# Altium schematic symbol library Microcontrolador.SchLib: 1 symbol
Pins are listed as number, name and electrical type; pins without a type are passive.

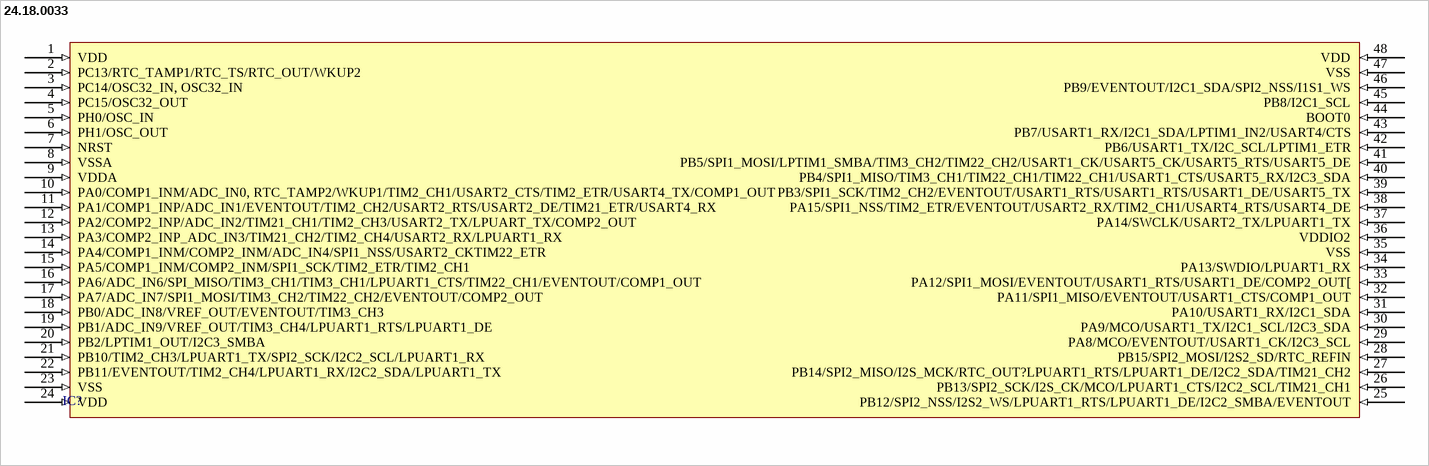
[diagram p0: symbol 24.18.0033]

## 24.18.0033
designator IC?
IC MCU 32-BIT 192KB FLASH ARM LQFP-48; Category: ARM-Microcontrollers; Price: 1=, 10=, 100= (USD); Package / Case: LQFP-48; Program Memory Type: Flash; Program Memory Size: 192 KB; Core Size: 32-bit; ComponentLink1Description: Datasheet; ComponentLink2Description: Mouser Link
footprint LQFP-48
pins: 1 VDD (in), 2 PC13/RTC_TAMP1/RTC_TS/RTC_OUT/WKUP2 (in), 3 PC14/OSC32_IN, OSC32_IN (in), 4 PC15/OSC32_OUT (in), 5 PH0/OSC_IN (in), 6 PH1/OSC_OUT (in), 7 NRST (in), 8 VSSA (in), 9 VDDA (in), 10 PA0/COMP1_INM/ADC_IN0, RTC_TAMP2/WKUP1/TIM2_CH1/USART2_CTS/TIM2_ETR/USART4_TX/COMP1_OUT (in), 11 PA1/COMP1_INP/ADC_IN1/EVENTOUT/TIM2_CH2/USART2_RTS/USART2_DE/TIM21_ETR/USART4_RX (in), 12 PA2/COMP2_INP/ADC_IN2/TIM21_CH1/TIM2_CH3/USART2_TX/LPUART_TX/COMP2_OUT (in), 13 PA3/COMP2_INP_ADC_IN3/TIM21_CH2/TIM2_CH4/USART2_RX/LPUART1_RX (in), 14 PA4/COMP1_INM/COMP2_INM/ADC_IN4/SPI1_NSS/USART2_CKTIM22_ETR (in), 15 PA5/COMP1_INM/COMP2_INM/SPI1_SCK/TIM2_ETR/TIM2_CH1 (in), 16 PA6/ADC_IN6/SPI_MISO/TIM3_CH1/TIM3_CH1/LPUART1_CTS/TIM22_CH1/EVENTOUT/COMP1_OUT (in), 17 PA7/ADC_IN7/SPI1_MOSI/TIM3_CH2/TIM22_CH2/EVENTOUT/COMP2_OUT (in), 18 PB0/ADC_IN8/VREF_OUT/EVENTOUT/TIM3_CH3 (in), 19 PB1/ADC_IN9/VREF_OUT/TIM3_CH4/LPUART1_RTS/LPUART1_DE (in), 20 PB2/LPTIM1_OUT/I2C3_SMBA (in), 21 PB10/TIM2_CH3/LPUART1_TX/SPI2_SCK/I2C2_SCL/LPUART1_RX (in), 22 PB11/EVENTOUT/TIM2_CH4/LPUART1_RX/I2C2_SDA/LPUART1_TX (in), 23 VSS (in), 24 VDD (in), 25 PB12/SPI2_NSS/I2S2_WS/LPUART1_RTS/LPUART1_DE/I2C2_SMBA/EVENTOUT (in), 26 PB13/SPI2_SCK/I2S_CK/MCO/LPUART1_CTS/I2C2_SCL/TIM21_CH1 (in), 27 PB14/SPI2_MISO/I2S_MCK/RTC_OUT?LPUART1_RTS/LPUART1_DE/I2C2_SDA/TIM21_CH2 (in), 28 PB15/SPI2_MOSI/I2S2_SD/RTC_REFIN (in), 29 PA8/MCO/EVENTOUT/USART1_CK/I2C3_SCL (in), 30 PA9/MCO/USART1_TX/I2C1_SCL/I2C3_SDA (in), 31 PA10/USART1_RX/I2C1_SDA (in), 32 PA11/SPI1_MISO/EVENTOUT/USART1_CTS/COMP1_OUT (in), 33 PA12/SPI1_MOSI/EVENTOUT/USART1_RTS/USART1_DE/COMP2_OUT[ (in), 34 PA13/SWDIO/LPUART1_RX (in), 35 VSS (in), 36 VDDIO2 (in), 37 PA14/SWCLK/USART2_TX/LPUART1_TX (in), 38 PA15/SPI1_NSS/TIM2_ETR/EVENTOUT/USART2_RX/TIM2_CH1/USART4_RTS/USART4_DE (in), 39 PB3/SPI1_SCK/TIM2_CH2/EVENTOUT/USART1_RTS/USART1_RTS/USART1_DE/USART5_TX (in), 40 PB4/SPI1_MISO/TIM3_CH1/TIM22_CH1/TIM22_CH1/USART1_CTS/USART5_RX/I2C3_SDA (in), 41 PB5/SPI1_MOSI/LPTIM1_SMBA/TIM3_CH2/TIM22_CH2/USART1_CK/USART5_CK/USART5_RTS/USART5_DE (in), 42 PB6/USART1_TX/I2C_SCL/LPTIM1_ETR (in), 43 PB7/USART1_RX/I2C1_SDA/LPTIM1_IN2/USART4/CTS (in), 44 BOOT0 (in), 45 PB8/I2C1_SCL (in), 46 PB9/EVENTOUT/I2C1_SDA/SPI2_NSS/I1S1_WS (in), 47 VSS (in), 48 VDD (in)